# Altium footprint library hsbest.PcbLib: 389 footprints (part 7 of 25)
Each footprint in its own frame and in the unit in brackets; x right, y up, seen from the top. Pads: shape width x height; smd on the part's side, far side on the other; paste and mask are expansions set on the pad; w line width, h text height; cw(c..) or ccw(c..) is an arc to the next point about the centre after c.
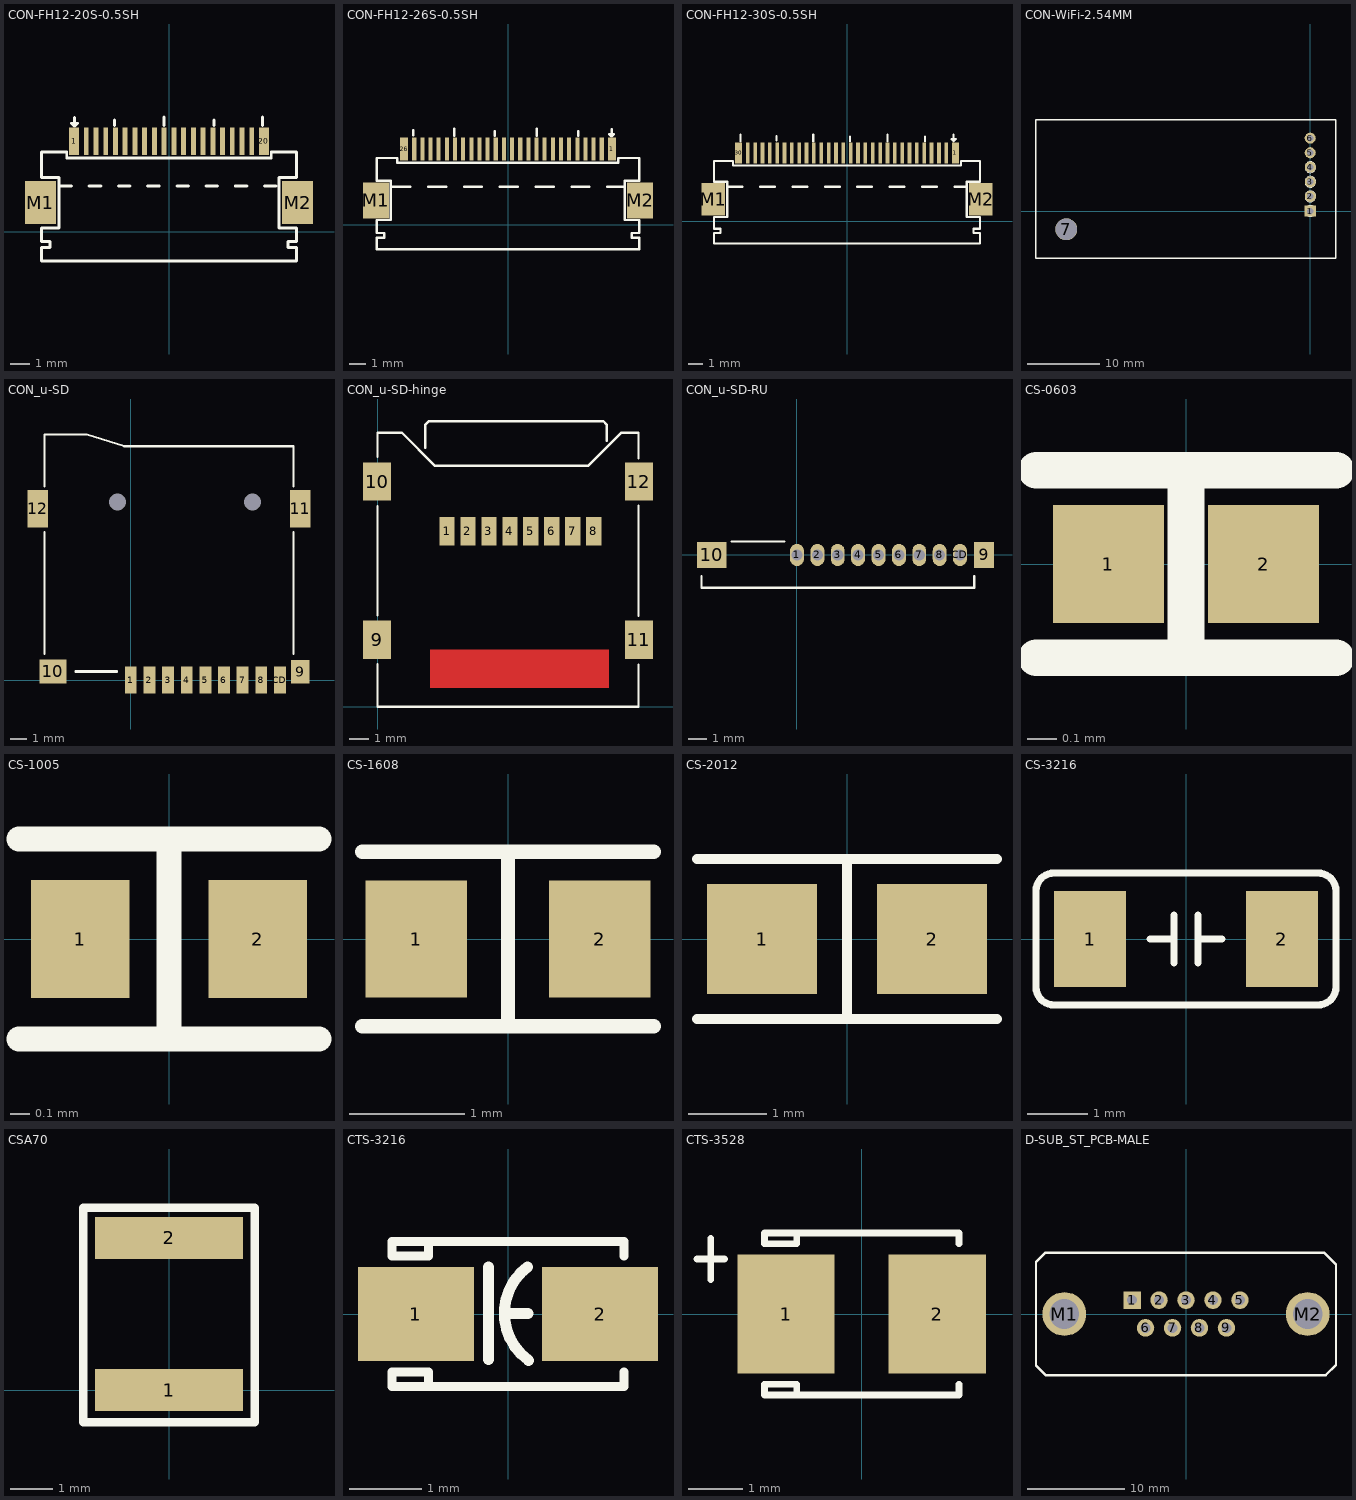
[diagram p6: the footprints below, top view; thin cyan lines are the x and y axes]

## CON-FH12-20S-0.5SH [mm]
pads (22):
  rect 0.5x1.4 smd: 1(-4.875,4.65) 20(4.875,4.65)
  rect 0.25x1.4 smd: 2(-4.25,4.65) 3(-3.75,4.65) 4(-3.25,4.65) 5(-2.75,4.65) 6(-2.25,4.65) 7(-1.75,4.65) 8(-1.25,4.65) 9(-0.75,4.65) 10(-0.25,4.65) 11(0.25,4.65) 12(0.75,4.65) 13(1.25,4.65) 14(1.75,4.65) 15(2.25,4.65) 16(2.75,4.65) 17(3.25,4.65) 18(3.75,4.65) 19(4.25,4.65)
  rect 1.6x2.2 smd: M1(-6.6,1.5) M2(6.6,1.5)
Top Overlay:
  lines w0.15: -5.6,2.35 -5,2.35 ; -4.85,5.875 -4.85,5.425 ; -4.1,2.35 -3.5,2.35 ; -2.8,5.45 -2.8,5.75 ; -2.6,2.35 -2,2.35 ; -1.1,2.35 -0.5,2.35 ; -0.25,5.45 -0.25,5.9 ; 0.4,2.35 1,2.35 ; 1.9,2.35 2.5,2.35 ; 2.3,5.45 2.3,5.75 ; 3.4,2.35 4,2.35 ; 4.8,5.45 4.8,5.9 ; 4.9,2.35 5.5,2.35 ; -4.85,5.425 -4.7,5.575 -5,5.575 -4.85,5.425 ; -6.55,-1.5 -6.55,-0.8 -6.1,-0.8 -6.1,-0.5 -6.55,-0.5 -6.55,0.2 -5.65,0.2 -5.65,2.8 -6.55,2.8 -6.55,4.1 -5.25,4.1 -5.25,3.8 5.25,3.8 5.25,4.1 6.55,4.1 6.55,2.8 5.65,2.8 5.65,0.2 6.55,0.2 6.55,-0.5 6.1,-0.5 6.1,-0.8 6.55,-0.8 6.55,-1.5 -6.55,-1.5

## CON-FH12-26S-0.5SH [mm]
pads (28):
  rect 0.5x1.4 smd: 1(6.375,4.65) 26(-6.375,4.65)
  rect 0.25x1.4 smd: 2(5.75,4.65) 3(5.25,4.65) 4(4.75,4.65) 5(4.25,4.65) 6(3.75,4.65) 7(3.25,4.65) 8(2.75,4.65) 9(2.25,4.65) 10(1.75,4.65) 11(1.25,4.65) 12(0.75,4.65) 13(0.25,4.65) 14(-0.25,4.65) 15(-0.75,4.65) 16(-1.25,4.65) 17(-1.75,4.65) 18(-2.25,4.65) 19(-2.75,4.65) 20(-3.25,4.65) 21(-3.75,4.65) 22(-4.25,4.65) 23(-4.75,4.65) 24(-5.25,4.65) 25(-5.75,4.65)
  rect 1.6x2.2 smd: M1(-8.1,1.5) M2(8.1,1.5)
Top Overlay:
  lines w0.15: -7.1,2.35 -6,2.35 ; -5.8,5.5 -5.8,5.8 ; -4.9,2.35 -3.8,2.35 ; -3.3,5.45 -3.3,5.9 ; -2.7,2.35 -1.6,2.35 ; -0.8,5.45 -0.8,5.75 ; -0.5,2.35 0.6,2.35 ; 1.7,2.35 2.8,2.35 ; 1.75,5.45 1.75,5.9 ; 3.9,2.35 5,2.35 ; 4.3,5.45 4.3,5.75 ; 6.1,2.35 7.1,2.35 ; 6.35,5.875 6.35,5.425 ; 6.35,5.425 6.2,5.575 6.5,5.575 6.35,5.425 ; -8.05,-1.5 -8.05,-0.8 -7.6,-0.8 -7.6,-0.5 -8.05,-0.5 -8.05,0.3 -7.2,0.3 -7.2,2.7 -8.05,2.7 -8.05,4.1 -6.8,4.1 -6.8,3.8 6.75,3.8 6.75,4.1 8.05,4.1 8.05,2.7 7.15,2.7 7.15,0.3 8.05,0.3 8.05,-0.5 7.6,-0.5 7.6,-0.8 8.05,-0.8 8.05,-1.5 -8.05,-1.5

## CON-FH12-30S-0.5SH [mm]
pads (32):
  rect 0.5x1.4 smd: 1(7.375,4.65) 30(-7.375,4.65)
  rect 0.25x1.4 smd: 2(6.75,4.65) 3(6.25,4.65) 4(5.75,4.65) 5(5.25,4.65) 6(4.75,4.65) 7(4.25,4.65) 8(3.75,4.65) 9(3.25,4.65) 10(2.75,4.65) 11(2.25,4.65) 12(1.75,4.65) 13(1.25,4.65) 14(0.75,4.65) 15(0.25,4.65) 16(-0.25,4.65) 17(-0.75,4.65) 18(-1.25,4.65) 19(-1.75,4.65) 20(-2.25,4.65) 21(-2.75,4.65) 22(-3.25,4.65) 23(-3.75,4.65) 24(-4.25,4.65) 25(-4.75,4.65) 26(-5.25,4.65) 27(-5.75,4.65) 28(-6.25,4.65) 29(-6.75,4.65)
  rect 1.6x2.2 smd: M1(-9.1,1.5) M2(9.1,1.5)
Top Overlay:
  lines w0.15: -8.1,2.35 -7.1,2.35 ; -7.25,5.45 -7.25,5.9 ; -5.9,2.35 -4.9,2.35 ; -4.8,5.5 -4.8,5.8 ; -3.7,2.35 -2.7,2.35 ; -2.3,5.45 -2.3,5.9 ; -1.5,2.35 -0.5,2.35 ; 0.2,5.45 0.2,5.75 ; 0.7,2.35 1.7,2.35 ; 2.75,5.45 2.75,5.9 ; 2.9,2.35 3.9,2.35 ; 5.1,2.35 6.1,2.35 ; 5.3,5.45 5.3,5.75 ; 7.25,5.9 7.25,5.45 ; 7.3,2.35 8.1,2.35 ; 7.25,5.45 7.1,5.6 7.4,5.6 7.25,5.45 ; -9.05,-1.5 -9.05,-0.8 -8.6,-0.8 -8.6,-0.5 -9.05,-0.5 -9.05,0.3 -8.15,0.3 -8.15,2.7 -9.05,2.7 -9.05,4.1 -7.75,4.1 -7.75,3.8 7.75,3.8 7.75,4.1 9.05,4.1 9.05,2.7 8.15,2.7 8.15,0.3 9.05,0.3 9.05,-0.5 8.6,-0.5 8.6,-0.8 9.05,-0.8 9.05,-1.5 -9.05,-1.5

## CON-WiFi-2.54MM [mil]
pads (7):
  rect 60x60 hole 35: 1(-0.36,0)
  rrect100% 60x60 hole 35: 2(0.25,79.38) 3(0.25,158.17) 4(0.27,237.22) 5(-0.36,314.96) 6(-0.36,393.7)
  round 118.11 hole 118.11: 7(-1317.81,-98.22)
Top Overlay:
  circle w1: c0.47,0.65 r29
  circle w1: c0.47,79.39 r29
  circle w1: c0.47,158.13 r29
  circle w1: c0.47,236.87 r29
  lines w0.13: -1201.49,492.77 87.09,492.77
  lines w8: -1481.46,-254.74 -1481.46,493.16 138.82,493.16 138.82,-254.74 -1481.46,-254.74

## CON_u-SD [mm]
pads (15):
  rect 0.7x1.6 smd: 1(0,0) 2(1.105,0) 3(2.201,0) 4(3.303,0) 5(4.407,0) 6(5.504,0) 7(6.6,0) 8(7.705,0) CD(8.801,0)
  rect 1.1x1.4 smd: 9(10.006,0.499)
  rect 1.6x1.4 smd: 10(-4.596,0.508)
  rect 1.2x2.2 smd: 11(10.012,10.108) 12(-5.497,10.108)
  round 0.3 hole 1: 13(7.198,10.509) 14(-0.79,10.513)
Top Overlay:
  lines w0.127: -5.097,1.533 -5.097,8.733 ; -5.097,11.433 -5.097,14.507 -2.597,14.507 -0.397,13.807 9.603,13.807 9.603,11.433 ; 9.603,1.533 9.603,8.733 ; -3.269,0.483 -0.822,0.483 -0.822,0.535 -3.269,0.535 -3.269,0.483

## CON_u-SD-hinge [mm]
pads (12):
  rect 0.8x1.5 smd: 1(3.65,9.225) 2(4.75,9.225) 3(5.85,9.225) 4(6.95,9.225) 5(8.05,9.225) 6(9.15,9.225) 7(10.25,9.225) 8(11.35,9.225)
  rect 1.45x2 smd: 9(-0.025,3.525) 10(-0.025,11.825) 11(13.725,3.525) 12(13.725,11.825)
Top Layer:
  pour cut-out: 2.78,3 2.78,1 12.13,1 12.13,3
Top Overlay:
  lines w0.127: 0,2.25 0,0 13.7,0 13.7,2.225 ; 0,4.8 0,10.525 ; 0,13.125 0,14.4 1.275,14.4 3.025,12.65 11.05,12.65 12.8,14.4 13.7,14.4 13.7,13.05 ; 2.5,13.6 2.5,14.8 2.7,15 11.85,15 12.025,14.825 12.025,13.975 ; 13.7,4.775 13.7,10.55

## CON_u-SD-RU [mm]
pads (11):
  oval 0.75x1.2 hole 0.6: 1(0,0) 2(1.105,0) 3(2.201,0) 4(3.303,0) 5(4.407,0) 6(5.504,0) 7(6.6,0) 8(7.705,0) CD(8.801,0)
  rect 1.1x1.4 smd: 9(10.1,0)
  rect 1.6x1.4 smd: 10(-4.596,0)
Top Overlay:
  lines w0.127: -5.15,-1.15 -5.15,-1.775 9.575,-1.775 9.575,-1.15 ; -3.525,0.725 -0.675,0.725

## CS-0603 [mm]
pads (2):
  rect 0.375x0.4 smd: 1(-0.262,0) 2(0.262,0)
Top Overlay:
  lines w0.125: -0.508,-0.318 0.508,-0.318 ; -0.508,0.318 0.508,0.318 ; 0,-0.254 0,0.254

## CS-1005 [mm]
pads (2):
  rect 0.5x0.6 smd: 1(-0.45,0) 2(0.45,0)
Top Overlay:
  lines w0.125: -0.762,-0.508 0,-0.508 ; -0.762,0.508 0,0.508 ; 0.762,-0.508 0,-0.508 ; 0.762,0.508 0,0.508 ; 0,-0.508 0,0.508 ; 0,-0.508 0,0.508

## CS-1608 [mil]
pads (2):
  rect 35x40 smd: 1(-31.5,0) 2(31.5,0)
Top Overlay:
  lines w4.92: -50,-30 50,-30 ; -50,30 50,30 ; 0,-30 0,30

## CS-2012 [mil]
pads (2):
  rect 55x55 smd: 1(-42.5,0) 2(42.5,0)
Top Overlay:
  lines w4.92: -75,-40 75,-40 ; -75,40 75,40 ; 0,-40 0,40

## CS-3216 [mm]
pads (2):
  rect 1.2x1.6 smd: 1(-1.6,0) 2(1.6,0)
Top Overlay:
  lines w0.12: -0.6,0 -0.2,0 ; -0.2,-0.4 -0.2,0.4 ; 0.2,-0.4 0.2,0.4 ; 0.2,0 0.6,0 ; -2.5,-0.8 ccw(c-2.2,-0.8) -2.2,-1.1 2.2,-1.1 ccw(c2.2,-0.8) 2.5,-0.8 2.5,0.8 ccw(c2.2,0.8) 2.2,1.1 -2.2,1.1 ccw(c-2.2,0.8) -2.5,0.8 -2.5,-0.8

## CSA70 [mm]
pads (2):
  rect 3.5x1 smd: 1(0,0) 2(0,3.6)
Top Overlay:
  lines w0.2: -2.032,-0.762 2.032,-0.762 2.032,4.318 -2.032,4.318 -2.032,-0.762

## CTS-3216 [mil]
pads (2):
  rect 63x51 smd: 1(-50,0) 2(50,0)
Top Overlay:
  lines w4.92: 62.99,-31.5 62.99,-39.37 -62.99,-39.37 ; 62.99,31.5 62.99,39.37 -62.99,39.37 ; -62.99,-39.37 -62.99,-31.5 ; -62.99,-39.37 -43.31,-39.37 -43.31,-31.5 -62.99,-31.5 ; -62.99,-39.37 -62.99,-31.5 ; -62.99,31.5 -62.99,39.37 ; -62.99,31.5 -43.31,31.5 -43.31,39.37 -62.99,39.37 ; -62.99,31.5 -62.99,39.37
  lines w6: -10.48,-24.61 -10.48,25.39 ; 0.52,0.39 10.83,0.39 ; 10.66,25.62 ccw(c29.51,0.39) 11.12,-25.18

## CTS-3528 [mil]
pads (2):
  rect 71x87 smd: 1(-55.12,0) 2(55.12,0)
Top Overlay:
  lines w4.92: -120,40 -100,40 ; -110,25 -110,55 ; 70.87,-51.18 70.87,-59.06 -70.87,-59.06 ; 70.87,51.18 70.87,59.06 -70.87,59.06 ; -70.87,-59.06 -70.87,-51.18 ; -70.87,-59.06 -47.24,-59.06 -47.24,-51.18 -70.87,-51.18 ; -70.87,-59.06 -70.87,-51.18 ; -70.87,51.18 -70.87,59.06 ; -70.87,51.18 -47.24,51.18 -47.24,59.06 -70.87,59.06 ; -70.87,51.18 -70.87,59.06

## D-SUB_ST_PCB-MALE [mm]
pads (11):
  rect 1.8x1.8 hole 1.02: 1(-5.54,1.42)
  round 1.8 hole 1.02: 2(-2.77,1.42) 3(0,1.42) 4(2.77,1.42) 5(5.54,1.42) 6(-4.155,-1.42) 7(-1.385,-1.42) 8(1.385,-1.42) 9(4.155,-1.42)
  round 4.5 hole 3.05: M1(-12.495,0) M2(12.495,0)
Top Overlay:
  lines w0.254: -15.405,-5.295 -14.425,-6.275 14.35,-6.275 15.405,-5.22 15.405,5.095 14.225,6.275 -14.475,6.275 -15.405,5.345 -15.405,-5.295